# Altium schematic symbol library PES1-M.Schlib: 1 symbol
Pins are listed as number, name and electrical type; pins without a type are passive.

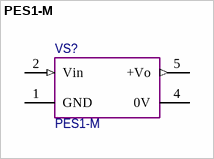
[diagram p0: symbol PES1-M]

## PES1-M
designator VS?
pins: 1 GND (power), 2 Vin (in), 4 0V, 5 +Vo (out)